# Altium integrated library Infineon_Power_Silicon_Carbide_(SiC).IntLib: 74 symbols (part 1 of 3)
Pins are listed as number, name and electrical type; pins without a type are passive.

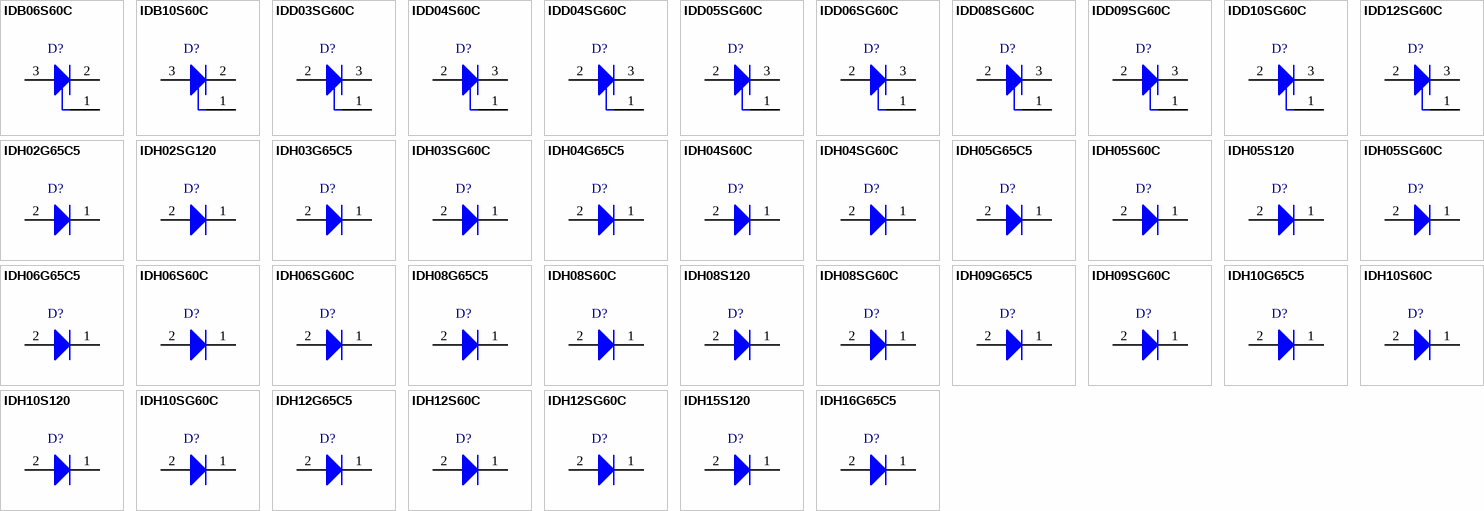
[diagram p0: symbols IDB06S60C to IDH16G65C5]

## IDB06S60C
designator D?
2nd Generation ThinQ SiC Schottky Diode, -55 to 175 degC, PG-TO220-3-45, Reel, Green; Manufacturer: Infineon; PartNumber: IDB06S60C; CT (typ): 280 pF; IF (typ): 6 A; IF,SM (max): 46 A; IR (max): 80 uA; Ptot (max): 52 W; QC (typ): 15 nC; RthJC (max): 2.9 K/W; VDC: 600 V; VF (typ): 1.5 V; DatasheetVersion: Rev. 2.1; PackageVersion: Rev. 03, 02/2010; PackageReference: PG-TO220-3-45; PackageDescription: 3-Pin Plastic (Green) Transistor Single Outline Package, Body 9.2 x 9.9 mm, Pitch 2.54 mm; Supplier 1: Mouser; Supplier Part Number 1: 726-IDB06S60C; Supplier 2: Digi-Key; Supplier Part Number 2: IDB06S60C-ND; Packing: Reel; Technology: thinQ! 2G; Mounting Technology: Surface Mount; ComponentLink1Description: Manufacturer URL; ComponentLink1URL: http://www.infineon.com/; ComponentLink2Description: Datasheet; ComponentLink2URL: http://www.infineon.com/dgdl/IDB06S60C_rev2.1.pdf?folderId=db3a304314dca38901151224afae0c96&fileId=db3a304318a6cd680118a8889fae007a; ComponentLink3Description: Package Specification; ComponentLink3URL: http://www.infineon.com/dgdl/IDB10S60C_rev2.1.pdf?folderId=db3a304314dca38901151224afae0c96&fileId=db3a304318a6cd680118a89c73e5009f
footprint INF-PG-TO220-3-45_N (DPAK, 3-Leads, Body 9.9x9.2mm, Pitch 2.54mm, IPC Medium Density)
footprint INF-PG-TO220-3-45_L (DPAK, 3-Leads, Body 9.9x9.2mm, Pitch 2.54mm, IPC High Density)
footprint INF-PG-TO220-3-45_M (DPAK, 3-Leads, Body 9.9x9.2mm, Pitch 2.54mm, IPC Low Density)
pins: 1 NC, 2 K, 3 A

## IDB10S60C
designator D?
2nd Generation ThinQ SiC Schottky Diode, -55 to 175 degC, PG-TO220-3-45, Reel; Manufacturer: Infineon; PartNumber: IDB10S60C; CT (typ): 480 pF; IF (typ): 10 A; IF,SM (max): 76 A; IR (max): 140 uA; Ptot (max): 83 W; QC (typ): 24 nC; RthJC (max): 1.8 K/W; VDC: 600 V; VF (typ): 1.5 V; DatasheetVersion: Rev. 2.1; PackageVersion: Rev. 03, 02/2010; PackageReference: PG-TO220-3-45; PackageDescription: 3-Pin Plastic (Green) Transistor Single Outline Package, Body 9.2 x 9.9 mm, Pitch 2.54 mm; Supplier 1: Mouser; Supplier Part Number 1: 726-IDB10S60C; Supplier 2: Digi-Key; Supplier Part Number 2: IDB10S60C-ND; Packing: Reel; Technology: thinQ! 2G; Mounting Technology: Surface Mount; ComponentLink1Description: Manufacturer URL; ComponentLink1URL: http://www.infineon.com/; ComponentLink2Description: Datasheet; ComponentLink2URL: http://www.infineon.com/dgdl/IDB10S60C_rev2.1.pdf?folderId=db3a304314dca38901151224afae0c96&fileId=db3a304318a6cd680118a89c73e5009f; ComponentLink3Description: Package Specification; ComponentLink3URL: http://www.infineon.com/dgdl/IDB10S60C_rev2.1.pdf?folderId=db3a304314dca38901151224afae0c96&fileId=db3a304318a6cd680118a89c73e5009f
footprint INF-PG-TO220-3-45_N (DPAK, 3-Leads, Body 9.9x9.2mm, Pitch 2.54mm, IPC Medium Density)
footprint INF-PG-TO220-3-45_L (DPAK, 3-Leads, Body 9.9x9.2mm, Pitch 2.54mm, IPC High Density)
footprint INF-PG-TO220-3-45_M (DPAK, 3-Leads, Body 9.9x9.2mm, Pitch 2.54mm, IPC Low Density)
pins: 1 NC, 2 K, 3 A

## IDD03SG60C
designator D?
3rd Generation thinQ SiC Schottky Diode, -55 to 175 degC, PG-TO252-3-21, Reel, Green; Manufacturer: Infineon; PartNumber: IDD03SG60C; CT (typ): 60 pF; IF (typ): 3 A; IF,SM (max): 11.5 A; IR (max): 15 uA; Ptot (max): 38 W; QC (typ): 3.2 nC; RthJC (max): 3.9 K/W; VDC: 600 V; VF (typ): 2.1 V; DatasheetVersion: Rev. 2.4; PackageVersion: Rev. 03, 10/2007; PackageReference: PG-TO252-3; PackageDescription: 3-Pin Plastic (Green) Transistor Single Outline Package, 6.095 x 6.565 mm Body, 2.29 mm Pitch; Supplier 1: Mouser; Supplier Part Number 1: 726-IDD03SG60C; Supplier 2: Newark; Supplier Part Number 2: 12T7339; Supplier 3: Farnell; Supplier Part Number 3: 1844993; Supplier 4: Digi-Key; Supplier Part Number 4: IDD03SG60CTR-ND; Supplier 5: Digi-Key; Supplier Part Number 5: IDD03SG60CCT-ND; Supplier 6: Digi-Key; Supplier Part Number 6: IDD03SG60CDKR-ND; Packing: Reel; Technology: thinQ! 3G; Mounting Technology: Surface Mount; ComponentLink1Description: Manufacturer URL; ComponentLink1URL: http://www.infineon.com/; ComponentLink2Description: Datasheet; ComponentLink2URL: http://www.infineon.com/dgdl/IDD03SG60C_rev2.4.pdf?folderId=db3a304314dca38901151224afae0c96&fileId=db3a304327b897500127dcb296f11a53; ComponentLink3Description: Package Specification; ComponentLink3URL: http://www.infineon.com/dgdl/IDD03SG60C_rev2.4.pdf?folderId=db3a304314dca38901151224afae0c96&fileId=db3a304327b897500127dcb296f11a53
footprint INF-PG-TO252-3_A_N (DPAK, 3-Leads, Body 6.565x6.095mm, Pitch 2.29mm, IPC Medium Density)
footprint INF-PG-TO252-3_A_L (DPAK, 3-Leads, Body 6.565x6.095mm, Pitch 2.29mm, IPC High Density)
footprint INF-PG-TO252-3_A_M (DPAK, 3-Leads, Body 6.565x6.095mm, Pitch 2.29mm, IPC Low Density)
pins: 1 NC, 2 A, 3 K

## IDD04S60C
designator D?
2nd Generation ThinQ SiC Schottky Diode, -55 to 175 degC, PG-TO252-3-11, Reel; Manufacturer: Infineon; PartNumber: IDD04S60C; CT (typ): 130 pF; IF (typ): 4 A; IF,SM (max): 32 A; IR (max): 50 uA; Ptot (max): 37 W; QC (typ): 8 nC; RthJC (max): 4.1 K/W; VDC: 600 V; VF (typ): 1.7 V; DatasheetVersion: Rev. 2.3; PackageVersion: Rev. 02, 03/2007; PackageReference: PG-TO252-3-11; PackageDescription: 3-Pin Plastic (Green) Transistor Single Outline Package, 6.57 x 6.1 mm Body, 2.29 mm Pitch; Supplier 1: Mouser; Supplier Part Number 1: 726-IDD04S60C; Supplier 2: Digi-Key; Supplier Part Number 2: IDD04S60CTR-ND; Supplier 3: Digi-Key; Supplier Part Number 3: IDD04S60CCT-ND; Supplier 4: Digi-Key; Supplier Part Number 4: IDD04S60CDKR-ND; Packing: Reel; Technology: thinQ! 2G; Mounting Technology: Surface Mount; ComponentLink1Description: Manufacturer URL; ComponentLink1URL: http://www.infineon.com/; ComponentLink2Description: Datasheet; ComponentLink2URL: http://www.infineon.com/dgdl/IDD04S60C_2.3.pdf?folderId=db3a304412b407950112b408e8c90004&fileId=db3a304412b407950112b439f8d36f1a; ComponentLink3Description: Package Specification; ComponentLink3URL: http://www.infineon.com/dgdl/IPD160N04L_rev1.0.pdf?folderId=db3a3043163797a6011643468e7505a4&fileId=db3a3043163797a60116436401cf05cf
footprint INF-PG-TO252-3-11_A_N (DPAK, 3-Leads, Body 6.57x6.1mm, Pitch 2.29mm, IPC Medium Density)
footprint INF-PG-TO252-3-11_A_L (DPAK, 3-Leads, Body 6.57x6.1mm, Pitch 2.29mm, IPC High Density)
footprint INF-PG-TO252-3-11_A_M (DPAK, 3-Leads, Body 6.57x6.1mm, Pitch 2.29mm, IPC Low Density)
pins: 1 NC, 2 A, 3 K

## IDD04SG60C
designator D?
3rd Generation ThinQ SiC Schottky Diode, -55 to 175 degC, PG-TO252-3-313, Reel, Green; Manufacturer: Infineon; PartNumber: IDD04SG60C; CT (typ): 80 pF; IF (typ): 4 A; IF,SM (max): 18 A; IR (max): 25 uA; Ptot (max): 43 W; QC (typ): 4.5 nC; RthJC (max): 3.5 K/W; VDC: 600 V; VF (typ): 2.1 V; DatasheetVersion: Rev. 2.4; PackageVersion: Oct-10; PackageReference: PG-TO252-3-313; PackageDescription: 3-Pin Plastic (Green) Transistor Single Outline Package, 6.5 x 6.12 mm Body, 2.28 mm Pitch; Supplier 1: Mouser; Supplier Part Number 1: 726-IDD04SG60C; Supplier 2: Newark; Supplier Part Number 2: 12T7340; Supplier 3: Farnell; Supplier Part Number 3: 1844995; Supplier 4: Digi-Key; Supplier Part Number 4: IDD04SG60C-ND; Packing: Reel; Technology: thinQ! 3G; Mounting Technology: Surface Mount; ComponentLink1Description: Manufacturer URL; ComponentLink1URL: http://www.infineon.com/; ComponentLink2Description: Datasheet; ComponentLink2URL: http://www.infineon.com/dgdl/IDD04SG60C_rev2.4.pdf?folderId=db3a304314dca38901151224afae0c96&fileId=db3a304327b897500127dcc02a0f1a63; ComponentLink3Description: Package Specification; ComponentLink3URL: http://www.infineon.com/dgdl/PG-TO252-3-313-Package_Overview.pdf?folderId=db3a30432b57a660012b81890ade72d2&fileId=db3a30432b57a660012b8193af2872eb
footprint INF-PG-TO252-3-313_N (DPAK, 3-Leads, Body 6.5x6.12mm, Pitch 2.28mm, IPC Medium Density)
footprint INF-PG-TO252-3-313_L (DPAK, 3-Leads, Body 6.5x6.12mm, Pitch 2.28mm, IPC High Density)
footprint INF-PG-TO252-3-313_M (DPAK, 3-Leads, Body 6.5x6.12mm, Pitch 2.28mm, IPC Low Density)
pins: 1 NC, 2 A, 3 K

## IDD05SG60C
designator D?
3rd Generation ThinQ SiC Schottky Diode, -55 to 175 degC, PG-TO252-3-313, Reel, Green; Manufacturer: Infineon; PartNumber: IDD05SG60C; CT (typ): 110 pF; IF (typ): 5 A; IF,SM (max): 26 A; IR (max): 30 uA; Ptot (max): 56 W; QC (typ): 6 nC; RthJC (max): 2.7 K/W; VDC: 600 V; VF (typ): 2.1 V; DatasheetVersion: Rev. 2.4; PackageVersion: Oct-10; PackageReference: PG-TO252-3-313; PackageDescription: 3-Pin Plastic (Green) Transistor Single Outline Package, 6.5 x 6.12 mm Body, 2.28 mm Pitch; Supplier 1: Mouser; Supplier Part Number 1: 726-IDD05SG60C; Supplier 2: Newark; Supplier Part Number 2: 12T7341; Supplier 3: Farnell; Supplier Part Number 3: 1844996; Supplier 4: Digi-Key; Supplier Part Number 4: IDD05SG60C-ND; Packing: Reel; Technology: thinQ! 3G; Mounting Technology: Surface Mount; ComponentLink1Description: Manufacturer URL; ComponentLink1URL: http://www.infineon.com/; ComponentLink2Description: Datasheet; ComponentLink2URL: http://www.infineon.com/dgdl/IDD05SG60C_rev2.4.pdf?folderId=db3a304314dca38901151224afae0c96&fileId=db3a304327b897500127dd2fc4391a74; ComponentLink3Description: Package Specification; ComponentLink3URL: http://www.infineon.com/dgdl/PG-TO252-3-313-Package_Overview.pdf?folderId=db3a30432b57a660012b81890ade72d2&fileId=db3a30432b57a660012b8193af2872eb
footprint INF-PG-TO252-3-313_N (DPAK, 3-Leads, Body 6.5x6.12mm, Pitch 2.28mm, IPC Medium Density)
footprint INF-PG-TO252-3-313_L (DPAK, 3-Leads, Body 6.5x6.12mm, Pitch 2.28mm, IPC High Density)
footprint INF-PG-TO252-3-313_M (DPAK, 3-Leads, Body 6.5x6.12mm, Pitch 2.28mm, IPC Low Density)
pins: 1 NC, 2 A, 3 K

## IDD06SG60C
designator D?
3rd Generation ThinQ SiC Schottky Diode, -55 to 175 degC, PG-TO252-3-313, Reel, Green; Manufacturer: Infineon; PartNumber: IDD06SG60C; CT (typ): 130 pF; IF (typ): 6 A; IF,SM (max): 32 A; IR (max): 50 uA; Ptot (max): 65 W; QC (typ): 8 nC; RthJC (max): 2.3 K/W; VDC: 600 V; VF (typ): 2.1 V; DatasheetVersion: Rev. 2.4; PackageVersion: Oct-10; PackageReference: PG-TO252-3-313; PackageDescription: 3-Pin Plastic (Green) Transistor Single Outline Package, 6.5 x 6.12 mm Body, 2.28 mm Pitch; Supplier 1: Mouser; Supplier Part Number 1: 726-IDD06SG60C; Supplier 2: Newark; Supplier Part Number 2: 12T7342; Supplier 3: Farnell; Supplier Part Number 3: 1844997; Supplier 4: Digi-Key; Supplier Part Number 4: IDD06SG60C-ND; Packing: Reel; Technology: thinQ! 3G; Mounting Technology: Surface Mount; ComponentLink1Description: Manufacturer URL; ComponentLink1URL: http://www.infineon.com/; ComponentLink2Description: Datasheet; ComponentLink2URL: http://www.infineon.com/dgdl/IDD06SG60C_rev2.4.pdf?folderId=db3a304314dca38901151224afae0c96&fileId=db3a304327b897500127dd36c4741a85; ComponentLink3Description: Package Specification; ComponentLink3URL: http://www.infineon.com/dgdl/PG-TO252-3-313-Package_Overview.pdf?folderId=db3a30432b57a660012b81890ade72d2&fileId=db3a30432b57a660012b8193af2872eb
footprint INF-PG-TO252-3-313_N (DPAK, 3-Leads, Body 6.5x6.12mm, Pitch 2.28mm, IPC Medium Density)
footprint INF-PG-TO252-3-313_L (DPAK, 3-Leads, Body 6.5x6.12mm, Pitch 2.28mm, IPC High Density)
footprint INF-PG-TO252-3-313_M (DPAK, 3-Leads, Body 6.5x6.12mm, Pitch 2.28mm, IPC Low Density)
pins: 1 NC, 2 A, 3 K

## IDD08SG60C
designator D?
3rd Generation ThinQ SiC Schottky Diode, -55 to 175 degC, PG-TO252-3-313, Reel, Green; Manufacturer: Infineon; PartNumber: IDD08SG60C; CT (typ): 240 pF; IF (typ): 8 A; IF,SM (max): 42 A; IR (max): 70 uA; Ptot (max): 100 W; QC (typ): 12 nC; RthJC (max): 1.5 K/W; VDC: 600 V; VF (typ): 1.8 V; DatasheetVersion: Rev. 2.4; PackageVersion: Oct-10; PackageReference: PG-TO252-3-313; PackageDescription: 3-Pin Plastic (Green) Transistor Single Outline Package, 6.5 x 6.12 mm Body, 2.28 mm Pitch; Supplier 1: Mouser; Supplier Part Number 1: 726-IDD08SG60C; Supplier 2: Newark; Supplier Part Number 2: 12T7343; Supplier 3: Farnell; Supplier Part Number 3: 1844998; Supplier 4: Digi-Key; Supplier Part Number 4: IDD08SG60C-ND; Packing: Reel; Technology: thinQ! 3G; Mounting Technology: Surface Mount; ComponentLink1Description: Manufacturer URL; ComponentLink1URL: http://www.infineon.com/; ComponentLink2Description: Datasheet; ComponentLink2URL: http://www.infineon.com/dgdl/IDD08SG60C_rev2.4.pdf?folderId=db3a304314dca38901151224afae0c96&fileId=db3a304327b897500127dd414af01a96; ComponentLink3Description: Package Specification; ComponentLink3URL: http://www.infineon.com/dgdl/PG-TO252-3-313-Package_Overview.pdf?folderId=db3a30432b57a660012b81890ade72d2&fileId=db3a30432b57a660012b8193af2872eb
footprint INF-PG-TO252-3-313_N (DPAK, 3-Leads, Body 6.5x6.12mm, Pitch 2.28mm, IPC Medium Density)
footprint INF-PG-TO252-3-313_L (DPAK, 3-Leads, Body 6.5x6.12mm, Pitch 2.28mm, IPC High Density)
footprint INF-PG-TO252-3-313_M (DPAK, 3-Leads, Body 6.5x6.12mm, Pitch 2.28mm, IPC Low Density)
pins: 1 NC, 2 A, 3 K

## IDD09SG60C
designator D?
3rd Generation ThinQ SiC Schottky Diode, -55 to 175 degC, PG-TO252-3-313, Reel, Green; Manufacturer: Infineon; PartNumber: IDD09SG60C; CT (typ): 280 pF; IF (typ): 9 A; IF,SM (max): 49 A; IR (max): 80 uA; Ptot (max): 115 mW; QC (typ): 15 nC; RthJC (max): 1.3 K/W; VDC: 600 V; VF (typ): 1.8 V; DatasheetVersion: Rev. 2.4; PackageVersion: Oct-10; PackageReference: PG-TO252-3-313; PackageDescription: 3-Pin Plastic (Green) Transistor Single Outline Package, 6.5 x 6.12 mm Body, 2.28 mm Pitch; Supplier 1: Mouser; Supplier Part Number 1: 726-IDD09SG60C; Supplier 2: Newark; Supplier Part Number 2: 12T7344; Supplier 3: Farnell; Supplier Part Number 3: 1844999; Supplier 4: Digi-Key; Supplier Part Number 4: IDD09SG60C-ND; Packing: Reel; Technology: thinQ! 3G; Mounting Technology: Surface Mount; ComponentLink1Description: Manufacturer URL; ComponentLink1URL: http://www.infineon.com/; ComponentLink2Description: Datasheet; ComponentLink2URL: http://www.infineon.com/dgdl/IDD09SG60C_rev2.4.pdf?folderId=db3a304314dca38901151224afae0c96&fileId=db3a304327b897500127dd6a2f7d1aab; ComponentLink3Description: Package Specification; ComponentLink3URL: http://www.infineon.com/dgdl/PG-TO252-3-313-Package_Overview.pdf?folderId=db3a30432b57a660012b81890ade72d2&fileId=db3a30432b57a660012b8193af2872eb
footprint INF-PG-TO252-3-313_N (DPAK, 3-Leads, Body 6.5x6.12mm, Pitch 2.28mm, IPC Medium Density)
footprint INF-PG-TO252-3-313_L (DPAK, 3-Leads, Body 6.5x6.12mm, Pitch 2.28mm, IPC High Density)
footprint INF-PG-TO252-3-313_M (DPAK, 3-Leads, Body 6.5x6.12mm, Pitch 2.28mm, IPC Low Density)
pins: 1 NC, 2 A, 3 K

## IDD10SG60C
designator D?
3rd Generation ThinQ SiC Schottky Diode, -55 to 175 degC, PG-TO252-3-313, Reel; Manufacturer: Infineon; PartNumber: IDD10SG60C; CT (typ): 290 pF; IF (typ): 10 A; IF,SM (max): 51 A; IR (max): 90 uA; Ptot (max): 120 W; QC (typ): 16 nC; RthJC (max): 1.25 K/W; VDC: 600 V; VF (typ): 1.8 V; DatasheetVersion: Rev. 2.4; PackageVersion: Oct-10; PackageReference: PG-TO252-3-313; PackageDescription: 3-Pin Plastic (Green) Transistor Single Outline Package, 6.5 x 6.12 mm Body, 2.28 mm Pitch; Supplier 1: Mouser; Supplier Part Number 1: 726-IDD10SG60C; Supplier 2: Newark; Supplier Part Number 2: 12T7345; Supplier 3: Farnell; Supplier Part Number 3: 1845000; Supplier 4: Digi-Key; Supplier Part Number 4: IDD10SG60C-ND; Packing: Reel; Technology: thinQ! 3G; Mounting Technology: Surface Mount; ComponentLink1Description: Manufacturer URL; ComponentLink1URL: http://www.infineon.com/; ComponentLink2Description: Datasheet; ComponentLink2URL: http://www.infineon.com/dgdl/IDD10SG60C_rev2.4.pdf?folderId=db3a304314dca38901151224afae0c96&fileId=db3a304327b897500127dd77c6a21abe; ComponentLink3Description: Package Specification; ComponentLink3URL: http://www.infineon.com/dgdl/PG-TO252-3-313-Package_Overview.pdf?folderId=db3a30432b57a660012b81890ade72d2&fileId=db3a30432b57a660012b8193af2872eb
footprint INF-PG-TO252-3-313_N (DPAK, 3-Leads, Body 6.5x6.12mm, Pitch 2.28mm, IPC Medium Density)
footprint INF-PG-TO252-3-313_L (DPAK, 3-Leads, Body 6.5x6.12mm, Pitch 2.28mm, IPC High Density)
footprint INF-PG-TO252-3-313_M (DPAK, 3-Leads, Body 6.5x6.12mm, Pitch 2.28mm, IPC Low Density)
pins: 1 NC, 2 A, 3 K

## IDD12SG60C
designator D?
3rd Generation ThinQ SiC Schottky Diode, -55 to 175 degC, PG-TO252-3-313, Reel, Green; Manufacturer: Infineon; PartNumber: IDD12SG60C; CT (typ): 310 pF; IF (typ): 12 A; IF,SM (max): 59 A; IR (max): 100 uA; Ptot (max): 125 W; QC (typ): 19 nC; RthJC (max): 1.2 K/W; VDC: 600 V; VF (typ): 1.8 V; DatasheetVersion: Rev. 2.4; PackageVersion: Oct-10; PackageReference: PG-TO252-3-313; PackageDescription: 3-Pin Plastic (Green) Transistor Single Outline Package, 6.5 x 6.12 mm Body, 2.28 mm Pitch; Supplier 1: Mouser; Supplier Part Number 1: 726-IDD12SG60C; Supplier 2: Digi-Key; Supplier Part Number 2: IDD12SG60C-ND; Packing: Reel; Technology: thinQ! 3G; Mounting Technology: Surface Mount; ComponentLink1Description: Manufacturer URL; ComponentLink1URL: http://www.infineon.com/; ComponentLink2Description: Datasheet; ComponentLink2URL: http://www.infineon.com/dgdl/IDD12SG60C_rev2.4.pdf?folderId=db3a304314dca38901151224afae0c96&fileId=db3a304327b897500127dd815a071acf; ComponentLink3Description: Package Specification; ComponentLink3URL: http://www.infineon.com/dgdl/PG-TO252-3-313-Package_Overview.pdf?folderId=db3a30432b57a660012b81890ade72d2&fileId=db3a30432b57a660012b8193af2872eb
footprint INF-PG-TO252-3-313_N (DPAK, 3-Leads, Body 6.5x6.12mm, Pitch 2.28mm, IPC Medium Density)
footprint INF-PG-TO252-3-313_L (DPAK, 3-Leads, Body 6.5x6.12mm, Pitch 2.28mm, IPC High Density)
footprint INF-PG-TO252-3-313_M (DPAK, 3-Leads, Body 6.5x6.12mm, Pitch 2.28mm, IPC Low Density)
pins: 1 NC, 2 A, 3 K

## IDH02G65C5
designator D?
5th Generation ThinQ SiC Schottky Diode, -55 to 175 degC, PG-TO220-2-1, Tube; Manufacturer: Infineon; PartNumber: IDH02G65C5; CT (typ): 70 pF; IF (typ): 2 A; IF,SM (max): 31 A; IR (max): 4 uA; Ptot (max): 36 W; QC (typ): 5 nC; RthJC (max): 4.2 K/W; VDC: 650 V; VF (typ): 1.5 V; DatasheetVersion: Rev. 2.2; PackageVersion: Rev. 01, 10/2008; PackageReference: PG-TO220-2-1; PackageDescription: 2-Pin Plastic (Green) Transistor Single Outline Package, Body 9.25 x 10 mm, Pitch 5.08 mm; Packing: Tube; Technology: thinQ! 5G; Mounting Technology: Through Hole; ComponentLink1Description: Manufacturer URL; ComponentLink1URL: http://www.infineon.com/; ComponentLink2Description: Datasheet; ComponentLink2URL: http://www.infineon.com/dgdl/IDH02G65C5_Final_Datasheet_v2_2.pdf?folderId=db3a304314dca38901151224afae0c96&fileId=db3a304339dcf4b1013a030ab96758eb; ComponentLink3Description: Package Specification; ComponentLink3URL: http://www.infineon.com/dgdl/IDP09E120_v2_3G%5B1%5D.pdf?folderId=db3a304314dca38901151224afae0c96&fileId=db3a30432313ff5e01237a7d849d7c11
footprint INF-PG-TO220-2-1 (FM, 2-Leads, Body 10x4.4mm, Pitch 5.08mm)
pins: 1 K, 2 A

## IDH02SG120
designator D?
3rd Generation ThinQ SiC Schottky Diode, -55 to 175 degC, PG-TO220-2-1, Tube, Green; Manufacturer: Infineon; PartNumber: IDH02SG120; CT (typ): 100 pF; IF (typ): 2 A; IF,SM (max): 12 A; IR (max): 48 uA; Ptot (max): 75 W; QC (typ): 7.2 nC; RthJC (max): 2 K/W; VDC: 1,200 V; VF (typ): 1.65 V; DatasheetVersion: Rev. 2.0; PackageVersion: Rev. 01, 10/2008; PackageReference: PG-TO220-2-1; PackageDescription: 2-Pin Plastic (Green) Transistor Single Outline Package, Body 9.25 x 10 mm, Pitch 5.08 mm; Supplier 1: Mouser; Supplier Part Number 1: 726-IDH02SG120; Supplier 2: Newark; Supplier Part Number 2: 12T7347; Supplier 3: Farnell; Supplier Part Number 3: 1844984; Supplier 4: Digi-Key; Supplier Part Number 4: IDH02SG120-ND; Packing: Tube; Technology: thinQ! 2G; Mounting Technology: Through Hole; ComponentLink1Description: Manufacturer URL; ComponentLink1URL: http://www.infineon.com/; ComponentLink2Description: Datasheet; ComponentLink2URL: http://www.infineon.com/dgdl/IDH02SG120_rev+2.pdf?folderId=db3a304314dca38901151224afae0c96&fileId=db3a304320896aa20120b353d54376e4; ComponentLink3Description: Package Specification; ComponentLink3URL: http://www.infineon.com/dgdl/IDP09E120_v2_3G%5B1%5D.pdf?folderId=db3a304314dca38901151224afae0c96&fileId=db3a30432313ff5e01237a7d849d7c11
footprint INF-PG-TO220-2-1 (FM, 2-Leads, Body 10x4.4mm, Pitch 5.08mm)
pins: 1 K, 2 A

## IDH03G65C5
designator D?
5th Generation ThinQ SiC Schottky Diode, -55 to 175 degC, PG-TO220-2-1, Tube, Green; Manufacturer: Infineon; PartNumber: IDH03G65C5; CT (typ): 100 pF; IF (typ): 3 A; IF,SM (max): 31 A; IR (max): 30 uA; Ptot (max): 42 W; QC (typ): 5 nC; RthJC (max): 3.6 K/W; VDC: 650 V; VF (typ): 1.5 V; DatasheetVersion: Rev. 2.2; PackageVersion: Rev. 01, 10/2008; PackageReference: PG-TO220-2-1; PackageDescription: 2-Pin Plastic (Green) Transistor Single Outline Package, Body 9.25 x 10 mm, Pitch 5.08 mm; Supplier 1: Digi-Key; Supplier Part Number 1: IDH03G65C5-ND; Packing: Tube; Technology: thinQ! 5G; Mounting Technology: Through Hole; ComponentLink1Description: Manufacturer URL; ComponentLink1URL: http://www.infineon.com/; ComponentLink2Description: Datasheet; ComponentLink2URL: http://www.infineon.com/dgdl/IDH03G65C5_Final_Datasheet_v2_2.pdf?folderId=db3a304314dca38901151224afae0c96&fileId=db3a304339dcf4b1013a0316abfd58ff; ComponentLink3Description: Package Specification; ComponentLink3URL: http://www.infineon.com/dgdl/IDP09E120_v2_3G%5B1%5D.pdf?folderId=db3a304314dca38901151224afae0c96&fileId=db3a30432313ff5e01237a7d849d7c11
footprint INF-PG-TO220-2-1 (FM, 2-Leads, Body 10x4.4mm, Pitch 5.08mm)
pins: 1 K, 2 A

## IDH03SG60C
designator D?
3rd Generation ThinQ SiC Schottky Diode, -55 to 175 degC, PG-TO220-2-1, Tube, Green; Manufacturer: Infineon; PartNumber: IDH03SG60C; CT (typ): 60 pF; IF (typ): 3 A; IF,SM (max): 11.5 A; IR (max): 15 uA; Ptot (max): 38 W; QC (typ): 3.2 nC; RthJC (max): 3.9 K/W; VDC: 600 V; VF (typ): 2.1 V; DatasheetVersion: Rev. 2.3; PackageVersion: Rev. 01, 10/2008; PackageReference: PG-TO220-2-1; PackageDescription: 2-Pin Plastic (Green) Transistor Single Outline Package, Body 9.25 x 10 mm, Pitch 5.08 mm; Supplier 1: Mouser; Supplier Part Number 1: 726-IDH03SG60C; Supplier 2: Newark; Supplier Part Number 2: 12T7348; Supplier 3: Farnell; Supplier Part Number 3: 1845002; Supplier 4: Digi-Key; Supplier Part Number 4: IDH03SG60C-ND; Packing: Tube; Technology: thinQ! 3G; Mounting Technology: Through Hole; ComponentLink1Description: Manufacturer URL; ComponentLink1URL: http://www.infineon.com/; ComponentLink2Description: Datasheet; ComponentLink2URL: http://www.infineon.com/dgdl/IDH03SG60C_rev2.3.pdf?folderId=db3a30431ddc9372011ed0010fda1bd3&fileId=db3a30431ff98815012019e44a933f33; ComponentLink3Description: Package Specification; ComponentLink3URL: http://www.infineon.com/dgdl/IDP09E120_v2_3G%5B1%5D.pdf?folderId=db3a304314dca38901151224afae0c96&fileId=db3a30432313ff5e01237a7d849d7c11
footprint INF-PG-TO220-2-1 (FM, 2-Leads, Body 10x4.4mm, Pitch 5.08mm)
pins: 1 K, 2 A

## IDH04G65C5
designator D?
5th Generation ThinQ SiC Schottky Diode, -55 to 175 degC, PG-TO220-2-1, Tube, Green; Manufacturer: Infineon; PartNumber: IDH04G65C5; CT (typ): 130 pF; IF (typ): 4 A; IF,SM (max): 38 A; IR (max): 40 uA; Ptot (max): 48 W; QC (typ): 7 nC; RthJC (max): 3.1 K/W; VDC: 650 V; VF (typ): 1.5 V; DatasheetVersion: Rev. 2.2; PackageVersion: Rev. 01, 10/2008; PackageReference: PG-TO220-2-1; PackageDescription: 2-Pin Plastic (Green) Transistor Single Outline Package, Body 9.25 x 10 mm, Pitch 5.08 mm; Supplier 1: Digi-Key; Supplier Part Number 1: IDH04G65C5-ND; Packing: Tube; Technology: thinQ! 5G; Mounting Technology: Through Hole; ComponentLink1Description: Manufacturer URL; ComponentLink1URL: http://www.infineon.com/; ComponentLink2Description: Datasheet; ComponentLink2URL: http://www.infineon.com/dgdl/IDH04G65C5_Final_Datasheet_v2_2.pdf?folderId=db3a30431ddc9372011ed0010fda1bd3&fileId=db3a304339dcf4b1013a033ff5d95947; ComponentLink3Description: Package Specification; ComponentLink3URL: http://www.infineon.com/dgdl/IDP09E120_v2_3G%5B1%5D.pdf?folderId=db3a304314dca38901151224afae0c96&fileId=db3a30432313ff5e01237a7d849d7c11
footprint INF-PG-TO220-2-1 (FM, 2-Leads, Body 10x4.4mm, Pitch 5.08mm)
pins: 1 K, 2 A

## IDH04S60C
designator D?
2nd Generation ThinQ SiC Schottky Diode, -55 to 175 degC, PG-TO220-2-1, Tube, Green; Manufacturer: Infineon; PartNumber: IDH04S60C; CT (typ): 130 pF; IF (typ): 4 A; IF,SM (max): 32 A; IR (max): 50 uA; Ptot (max): 42 W; QC (typ): 8 nC; RthJC (max): 3.6 K/W; VDC: 600 V; VF (typ): 1.7 V; DatasheetVersion: Rev. 2.1; PackageVersion: Rev. 01, 10/2008; PackageReference: PG-TO220-2-1; PackageDescription: 2-Pin Plastic (Green) Transistor Single Outline Package, Body 9.25 x 10 mm, Pitch 5.08 mm; Supplier 1: Mouser; Supplier Part Number 1: 726-IDH04S60C; Supplier 2: Digi-Key; Supplier Part Number 2: IDH04S60C-ND; Packing: Tube; Technology: thinQ! 2G; Mounting Technology: Through Hole; ComponentLink1Description: Manufacturer URL; ComponentLink1URL: http://www.infineon.com/; ComponentLink2Description: Datasheet; ComponentLink2URL: http://www.infineon.com/dgdl/IDH04S60C+rev.2.1.pdf?folderId=db3a304314dca38901151224afae0c96&fileId=db3a30432239cccd01225ed2716f7e3f; ComponentLink3Description: Package Specification; ComponentLink3URL: http://www.infineon.com/dgdl/IDP09E120_v2_3G%5B1%5D.pdf?folderId=db3a304314dca38901151224afae0c96&fileId=db3a30432313ff5e01237a7d849d7c11
footprint INF-PG-TO220-2-1 (FM, 2-Leads, Body 10x4.4mm, Pitch 5.08mm)
pins: 1 K, 2 A

## IDH04SG60C
designator D?
3rd Generation ThinQ SiC Schottky Diode, -55 to 175 degC, PG-TO220-2-1, Tube; Manufacturer: Infineon; PartNumber: IDH04SG60C; CT (typ): 80 pF; IF (typ): 4 A; IF,SM (max): 18 A; IR (max): 25 uA; Ptot (max): 43 W; QC (typ): 4.5 nC; RthJC (max): 3.5 K/W; VDC: 600 V; VF (typ): 2.1 V; DatasheetVersion: Rev. 2.4; PackageVersion: Rev. 01, 10/2008; PackageReference: PG-TO220-2-1; PackageDescription: 2-Pin Plastic (Green) Transistor Single Outline Package, Body 9.25 x 10 mm, Pitch 5.08 mm; Supplier 1: Mouser; Supplier Part Number 1: 726-IDH04SG60C; Supplier 2: Digi-Key; Supplier Part Number 2: IDH04SG60C-ND; Packing: Tube; Technology: thinQ! 3G; Mounting Technology: Through Hole; ComponentLink1Description: Manufacturer URL; ComponentLink1URL: http://www.infineon.com/; ComponentLink2Description: Datasheet; ComponentLink2URL: http://www.infineon.com/dgdl/IDH04SG60C_rev2.4+.pdf?folderId=db3a30431d8a6b3c011dbeca72db281a&fileId=db3a30431f848401011ff4cbbf635316; ComponentLink3Description: Package Specification; ComponentLink3URL: http://www.infineon.com/dgdl/IDP09E120_v2_3G%5B1%5D.pdf?folderId=db3a304314dca38901151224afae0c96&fileId=db3a30432313ff5e01237a7d849d7c11
footprint INF-PG-TO220-2-1 (FM, 2-Leads, Body 10x4.4mm, Pitch 5.08mm)
pins: 1 K, 2 A

## IDH05G65C5
designator D?
5th Generation ThinQ SiC Schottky Diode, -55 to 175 degC, PG-TO220-2-1, Tube; Manufacturer: Infineon; PartNumber: IDH05G65C5; CT (typ): 160 pF; IF (typ): 5 A; IF,SM (max): 46 A; IR (max): 50 uA; Ptot (max): 55 W; QC (typ): 8 nC; RthJC (max): 2.7 K/W; VDC: 650 V; VF (typ): 1.5 V; DatasheetVersion: Rev. 2.2; PackageVersion: Rev. 01, 10/2008; PackageReference: PG-TO220-2-1; PackageDescription: 2-Pin Plastic (Green) Transistor Single Outline Package, Body 9.25 x 10 mm, Pitch 5.08 mm; Supplier 1: Digi-Key; Supplier Part Number 1: IDH05G65C5-ND; Packing: Tube; Technology: thinQ! 5G; Mounting Technology: Through Hole; ComponentLink1Description: Manufacturer URL; ComponentLink1URL: http://www.infineon.com/; ComponentLink2Description: Datasheet; ComponentLink2URL: http://www.infineon.com/dgdl/IDH05G65C5_Final_Datasheet_v2_2.pdf?folderId=db3a30431ddc9372011ed0010fda1bd3&fileId=db3a304339dcf4b1013a034bd32d595e; ComponentLink3Description: Package Specification; ComponentLink3URL: http://www.infineon.com/dgdl/IDP09E120_v2_3G%5B1%5D.pdf?folderId=db3a304314dca38901151224afae0c96&fileId=db3a30432313ff5e01237a7d849d7c11
footprint INF-PG-TO220-2-1 (FM, 2-Leads, Body 10x4.4mm, Pitch 5.08mm)
pins: 1 K, 2 A

## IDH05S60C
designator D?
2nd Generation ThinQ SiC Schottky Diode, -55 to 175 degC, PG-TO220-2-1, Tube, Green; Manufacturer: Infineon; PartNumber: IDH05S60C; CT (typ): 240 pF; IF (typ): 5 A; IF,SM (max): 42 A; IR (max): 70 uA; Ptot (max): 55 W; QC (typ): 12 nC; RthJC (max): 2.7 K/W; VDC: 600 V; VF (typ): 1.5 V; DatasheetVersion: Rev. 2.1; PackageVersion: Rev. 01, 10/2008; PackageReference: PG-TO220-2-1; PackageDescription: 2-Pin Plastic (Green) Transistor Single Outline Package, Body 9.25 x 10 mm, Pitch 5.08 mm; Supplier 1: Mouser; Supplier Part Number 1: 726-IDH05S60C; Supplier 2: Farnell; Supplier Part Number 2: 1844990; Supplier 3: Digi-Key; Supplier Part Number 3: IDH05S60C-ND; Packing: Tube; Technology: thinQ! 2G; Mounting Technology: Through Hole; ComponentLink1Description: Manufacturer URL; ComponentLink1URL: http://www.infineon.com/; ComponentLink2Description: Datasheet; ComponentLink2URL: http://www.infineon.com/dgdl/IDH05S60C+rev.2.1.pdf?folderId=db3a30431d8a6b3c011dbeca72db281a&fileId=db3a3043284aacd80128b04ff3e05608; ComponentLink3Description: Package Specification; ComponentLink3URL: http://www.infineon.com/dgdl/IDP09E120_v2_3G%5B1%5D.pdf?folderId=db3a304314dca38901151224afae0c96&fileId=db3a30432313ff5e01237a7d849d7c11
footprint INF-PG-TO220-2-1 (FM, 2-Leads, Body 10x4.4mm, Pitch 5.08mm)
pins: 1 K, 2 A

## IDH05S120
designator D?
ThinQ SiC Schottky Diode, -55 to 175 degC, PG-TO220-2-1, Tube; Manufacturer: Infineon; PartNumber: IDH05S120; CT (typ): 250 pF; IF (typ): 5 A; IF,SM (max): 29 A; IR (max): 120 uA; Ptot (max): 75 W; QC (typ): 18 nC; RthJC (max): 2 K/W; VDC: 1,200 V; VF (typ): 1.65 V; DatasheetVersion: Rev. 2.0; PackageVersion: Rev. 01, 10/2008; PackageReference: PG-TO220-2-1; PackageDescription: 2-Pin Plastic (Green) Transistor Single Outline Package, Body 9.25 x 10 mm, Pitch 5.08 mm; Supplier 1: Mouser; Supplier Part Number 1: 726-IDH05S120; Supplier 2: Newark; Supplier Part Number 2: 22T5135; Supplier 3: Farnell; Supplier Part Number 3: 1854556; Supplier 4: Digi-Key; Supplier Part Number 4: IDH05S120-ND; Packing: Tube; Technology: thinQ! 2G; Mounting Technology: Through Hole; ComponentLink1Description: Manufacturer URL; ComponentLink1URL: http://www.infineon.com/; ComponentLink2Description: Datasheet; ComponentLink2URL: http://www.infineon.com/dgdl/IDH05S120_Rev2.pdf?folderId=db3a30431d8a6b3c011dbeca72db281a&fileId=db3a30431f848401011ff4b5a32352f1; ComponentLink3Description: Package Specification; ComponentLink3URL: http://www.infineon.com/dgdl/IDP09E120_v2_3G%5B1%5D.pdf?folderId=db3a304314dca38901151224afae0c96&fileId=db3a30432313ff5e01237a7d849d7c11
footprint INF-PG-TO220-2-1 (FM, 2-Leads, Body 10x4.4mm, Pitch 5.08mm)
pins: 1 K, 2 A

## IDH05SG60C
designator D?
3rd Generation ThinQ SiC Schottky Diode, -55 to 175 degC, PG-TO220-2-1, Tube; Manufacturer: Infineon; PartNumber: IDH05SG60C; CT (typ): 110 pF; IF (typ): 5 A; IF,SM (max): 26 A; IR (max): 30 uA; Ptot (max): 56 W; QC (typ): 6 nC; RthJC (max): 2.7 K/W; VDC: 600 V; VF (typ): 2.1 V; DatasheetVersion: Rev. 2.4; PackageVersion: Rev. 01, 10/2008; PackageReference: PG-TO220-2-1; PackageDescription: 2-Pin Plastic (Green) Transistor Single Outline Package, Body 9.25 x 10 mm, Pitch 5.08 mm; Supplier 1: Mouser; Supplier Part Number 1: 726-IDH05SG60C; Supplier 2: Digi-Key; Supplier Part Number 2: IDH05SG60C-ND; Packing: Tube; Technology: thinQ! 3G; Mounting Technology: Through Hole; ComponentLink1Description: Manufacturer URL; ComponentLink1URL: http://www.infineon.com/; ComponentLink2Description: Datasheet; ComponentLink2URL: http://www.infineon.com/dgdl/IDH05SG60C_rev2.4.pdf?folderId=db3a30431d8a6b3c011dbeca72db281a&fileId=db3a30431f848401011ff4cebd9a531b; ComponentLink3Description: Package Specification; ComponentLink3URL: http://www.infineon.com/dgdl/IDP09E120_v2_3G%5B1%5D.pdf?folderId=db3a304314dca38901151224afae0c96&fileId=db3a30432313ff5e01237a7d849d7c11
footprint INF-PG-TO220-2-1 (FM, 2-Leads, Body 10x4.4mm, Pitch 5.08mm)
pins: 1 K, 2 A

## IDH06G65C5
designator D?
5th Generation ThinQ SiC Schottky Diode, -55 to 175 degC, PG-TO220-2-1, Tube; Manufacturer: Infineon; PartNumber: IDH06G65C5; CT (typ): 190 pF; IF (typ): 6 A; IF,SM (max): 54 A; IR (max): 60 uA; Ptot (max): 62 W; QC (typ): 10 nC; RthJC (max): 2.4 K/W; VDC: 650 V; VF (typ): 1.5 V; DatasheetVersion: Rev. 2.2; PackageVersion: Rev. 01, 10/2008; PackageReference: PG-TO220-2-1; PackageDescription: 2-Pin Plastic (Green) Transistor Single Outline Package, Body 9.25 x 10 mm, Pitch 5.08 mm; Supplier 1: Digi-Key; Supplier Part Number 1: IDH06G65C5-ND; Packing: Tube; Technology: thinQ! 5G; Mounting Technology: Through Hole; ComponentLink1Description: Manufacturer URL; ComponentLink1URL: http://www.infineon.com/; ComponentLink2Description: Datasheet; ComponentLink2URL: http://www.infineon.com/dgdl/IDH06G65C5_Final_Datasheet_v2_2.pdf?folderId=db3a30431ddc9372011ed0010fda1bd3&fileId=db3a304339dcf4b1013a0353dadb5970; ComponentLink3Description: Package Specification; ComponentLink3URL: http://www.infineon.com/dgdl/IDP09E120_v2_3G%5B1%5D.pdf?folderId=db3a304314dca38901151224afae0c96&fileId=db3a30432313ff5e01237a7d849d7c11
footprint INF-PG-TO220-2-1 (FM, 2-Leads, Body 10x4.4mm, Pitch 5.08mm)
pins: 1 K, 2 A

## IDH06S60C
designator D?
2nd Generation ThinQ SiC Schottky Diode, -55 to 175 degC, PG-TO220-2-1, Tube, Green; Manufacturer: Infineon; PartNumber: IDH06S60C; CT (typ): 280 pF; IF (typ): 6 A; IF,SM (max): 49 A; IR (max): 80 uA; Ptot (max): 63 W; QC (typ): 15 nC; RthJC (max): 2.4 K/W; VDC: 600 V; VF (typ): 1.5 V; DatasheetVersion: Rev. 2.0; PackageVersion: Rev. 01, 10/2008; PackageReference: PG-TO220-2-1; PackageDescription: 2-Pin Plastic (Green) Transistor Single Outline Package, Body 9.25 x 10 mm, Pitch 5.08 mm; Supplier 1: Mouser; Supplier Part Number 1: 726-IDH06S60C; Supplier 2: Newark; Supplier Part Number 2: 12T7352; Supplier 3: Digi-Key; Supplier Part Number 3: IDH06S60C-ND; Packing: Tube; Technology: thinQ! 2G; Mounting Technology: Through Hole; ComponentLink1Description: Manufacturer URL; ComponentLink1URL: http://www.infineon.com/; ComponentLink2Description: Datasheet; ComponentLink2URL: http://www.infineon.com/dgdl/IDH06S60C_rev2.1.pdf?folderId=db3a304314dca38901151224afae0c96&fileId=db3a30432239cccd01225ee06add7e4f; ComponentLink3Description: Package Specification; ComponentLink3URL: http://www.infineon.com/dgdl/IDP09E120_v2_3G%5B1%5D.pdf?folderId=db3a304314dca38901151224afae0c96&fileId=db3a30432313ff5e01237a7d849d7c11
footprint INF-PG-TO220-2-1 (FM, 2-Leads, Body 10x4.4mm, Pitch 5.08mm)
pins: 1 K, 2 A

## IDH06SG60C
designator D?
3rd Generation ThinQ SiC Schottky Diode, -55 to 175 degC, PG-TO220-2-1, Tube, Green; Manufacturer: Infineon; PartNumber: IDH06SG60C; CT (typ): 130 pF; IF (typ): 6 A; IF,SM (max): 32 A; IR (max): 50 uA; Ptot (max): 71 W; QC (typ): 8 nC; RthJC (max): 2.1 K/W; VDC: 600 V; VF (typ): 2.1 V; DatasheetVersion: Rev. 2.4; PackageVersion: Rev. 01, 10/2008; PackageReference: PG-TO220-2-1; PackageDescription: 2-Pin Plastic (Green) Transistor Single Outline Package, Body 9.25 x 10 mm, Pitch 5.08 mm; Supplier 1: Mouser; Supplier Part Number 1: 726-IDH06SG60C; Supplier 2: Farnell; Supplier Part Number 2: 1845004; Supplier 3: Digi-Key; Supplier Part Number 3: IDH06SG60C-ND; Packing: Tube; Technology: thinQ! 3G; Mounting Technology: Through Hole; ComponentLink1Description: Manufacturer URL; ComponentLink1URL: http://www.infineon.com/; ComponentLink2Description: Datasheet; ComponentLink2URL: http://www.infineon.com/dgdl/IDH06SG60C_rev2.4.pdf?folderId=db3a30431ddc9372011ed0010fda1bd3&fileId=db3a30431ed1d7b2011eee0cadfb545a; ComponentLink3Description: Package Specification; ComponentLink3URL: http://www.infineon.com/dgdl/IDP09E120_v2_3G%5B1%5D.pdf?folderId=db3a304314dca38901151224afae0c96&fileId=db3a30432313ff5e01237a7d849d7c11
footprint INF-PG-TO220-2-1 (FM, 2-Leads, Body 10x4.4mm, Pitch 5.08mm)
pins: 1 K, 2 A

## IDH08G65C5
designator D?
5th Generation ThinQ SiC Schottky Diode, -55 to 175 degC, PG-TO220-2-1, Tube, Green; Manufacturer: Infineon; PartNumber: IDH08G65C5; CT (typ): 300 pF; IF (typ): 8 A; IF,SM (max): 68 A; IR (max): 80 uA; Ptot (max): 76 W; QC (typ): 13 nC; RthJC (max): 2 K/W; VDC: 650 V; VF (typ): 1.5 V; DatasheetVersion: Rev. 2.2; PackageVersion: Rev. 01, 10/2008; PackageReference: PG-TO220-2-1; PackageDescription: 2-Pin Plastic (Green) Transistor Single Outline Package, Body 9.25 x 10 mm, Pitch 5.08 mm; Supplier 1: Digi-Key; Supplier Part Number 1: IDH08G65C5-ND; Packing: Tube; Technology: thinQ! 5G; Mounting Technology: Through Hole; ComponentLink1Description: Manufacturer URL; ComponentLink1URL: http://www.infineon.com/; ComponentLink2Description: Datasheet; ComponentLink2URL: http://www.infineon.com/dgdl/IDH08G65C5_Final_Datasheet_v2_2.pdf?folderId=db3a30431ddc9372011ed0010fda1bd3&fileId=db3a30433a047ba0013a068f5352012b; ComponentLink3Description: Package Specification; ComponentLink3URL: http://www.infineon.com/dgdl/IDP09E120_v2_3G%5B1%5D.pdf?folderId=db3a304314dca38901151224afae0c96&fileId=db3a30432313ff5e01237a7d849d7c11
footprint INF-PG-TO220-2-1 (FM, 2-Leads, Body 10x4.4mm, Pitch 5.08mm)
pins: 1 K, 2 A

## IDH08S60C
designator D?
2nd Generation ThinQ SiC Schottky Diode, -55 to 175 degC, PG-TO220-2-1, Tube; Manufacturer: Infineon; PartNumber: IDH08S60C; CT (typ): 310 pF; IF (typ): 8 A; IF,SM (max): 59 A; IR (max): 100 uA; Ptot (max): 75 W; QC (typ): 19 nC; RthJC (max): 2 K/W; VDC: 600 V; VF (typ): 1.5 V; DatasheetVersion: Rev. 2.0; PackageVersion: Rev. 01, 10/2008; PackageReference: PG-TO220-2-1; PackageDescription: 2-Pin Plastic (Green) Transistor Single Outline Package, Body 9.25 x 10 mm, Pitch 5.08 mm; Supplier 1: Mouser; Supplier Part Number 1: 726-IDH08S60C; Supplier 2: Newark; Supplier Part Number 2: 22T5136; Supplier 3: Farnell; Supplier Part Number 3: 1854558; Supplier 4: Digi-Key; Supplier Part Number 4: IDH08S60C-ND; Packing: Tube; Technology: thinQ! 2G; Mounting Technology: Through Hole; ComponentLink1Description: Manufacturer URL; ComponentLink1URL: http://www.infineon.com/; ComponentLink2Description: Datasheet; ComponentLink2URL: http://www.infineon.com/dgdl/IDH08S60C_rev2.1.pdf?folderId=db3a304314dca38901151224afae0c96&fileId=db3a30432239cccd01225eec98947e5f; ComponentLink3Description: Package Specification; ComponentLink3URL: http://www.infineon.com/dgdl/IDP09E120_v2_3G%5B1%5D.pdf?folderId=db3a304314dca38901151224afae0c96&fileId=db3a30432313ff5e01237a7d849d7c11
footprint INF-PG-TO220-2-1 (FM, 2-Leads, Body 10x4.4mm, Pitch 5.08mm)
pins: 1 K, 2 A

## IDH08S120
designator D?
ThinQ SiC Schottky Diode, -55 to 175 degC, PG-TO220-2-1, Tube; Manufacturer: Infineon; PartNumber: IDH08S120; CT (typ): 380 pF; IF (typ): 7.5 A; IF,SM (max): 39 A; IR (max): 180 uA; Ptot (max): 100 W; QC (typ): 27 nC; RthJC (max): 1.5 K/W; VDC: 1,200 V; VF (typ): 1.65 V; DatasheetVersion: Rev. 2.0; PackageVersion: Rev. 01, 10/2008; PackageReference: PG-TO220-2-1; PackageDescription: 2-Pin Plastic (Green) Transistor Single Outline Package, Body 9.25 x 10 mm, Pitch 5.08 mm; Supplier 1: Mouser; Supplier Part Number 1: 726-IDH08S120; Supplier 2: Newark; Supplier Part Number 2: 12T7354; Supplier 3: Farnell; Supplier Part Number 3: 1844985; Supplier 4: Digi-Key; Supplier Part Number 4: IDH08S120-ND; Packing: Tube; Technology: thinQ! 2G; Mounting Technology: Through Hole; ComponentLink1Description: Manufacturer URL; ComponentLink1URL: http://www.infineon.com/; ComponentLink2Description: Datasheet; ComponentLink2URL: http://www.infineon.com/dgdl/IDH08S120_Rev2.pdf?folderId=db3a30431d8a6b3c011dbeca72db281a&fileId=db3a30431f848401011ff4dcd37d535a; ComponentLink3Description: Package Specification; ComponentLink3URL: http://www.infineon.com/dgdl/IDP09E120_v2_3G%5B1%5D.pdf?folderId=db3a304314dca38901151224afae0c96&fileId=db3a30432313ff5e01237a7d849d7c11
footprint INF-PG-TO220-2-1 (FM, 2-Leads, Body 10x4.4mm, Pitch 5.08mm)
pins: 1 K, 2 A

## IDH08SG60C
designator D?
3rd Generation ThinQ SiC Schottky Diode, -55 to 175 degC, PG-TO220-2-1, Tube; Manufacturer: Infineon; PartNumber: IDH08SG60C; CT (typ): 240 pF; IF (typ): 8 A; IF,SM (max): 42 A; IR (max): 70 uA; Ptot (max): 100 W; QC (typ): 12 nC; RthJC (max): 1.5 K/W; VDC: 600 V; VF (typ): 1.8 V; DatasheetVersion: Rev. 2.4; PackageVersion: Rev. 01, 10/2008; PackageReference: PG-TO220-2-1; PackageDescription: 2-Pin Plastic (Green) Transistor Single Outline Package, Body 9.25 x 10 mm, Pitch 5.08 mm; Supplier 1: Mouser; Supplier Part Number 1: 726-IDH08SG60C; Supplier 2: Newark; Supplier Part Number 2: 12T7353; Supplier 3: Farnell; Supplier Part Number 3: 1845005; Supplier 4: Digi-Key; Supplier Part Number 4: IDH08SG60C-ND; Packing: Tube; Technology: thinQ! 3G; Mounting Technology: Through Hole; ComponentLink1Description: Manufacturer URL; ComponentLink1URL: http://www.infineon.com/; ComponentLink2Description: Datasheet; ComponentLink2URL: http://www.infineon.com/dgdl/IDH08SG60C_rev2.4.pdf?folderId=db3a30431ddc9372011ed0010fda1bd3&fileId=db3a30431ddc9372011ed0066b811be6; ComponentLink3Description: Package Specification; ComponentLink3URL: http://www.infineon.com/dgdl/IDP09E120_v2_3G%5B1%5D.pdf?folderId=db3a304314dca38901151224afae0c96&fileId=db3a30432313ff5e01237a7d849d7c11
footprint INF-PG-TO220-2-1 (FM, 2-Leads, Body 10x4.4mm, Pitch 5.08mm)
pins: 1 K, 2 A

## IDH09G65C5
designator D?
5th Generation ThinQ SiC Silicon Carbide Diode, -55 to 175 degC, PG-TO220-2-1, Tube; Manufacturer: Infineon; PartNumber: IDH09G65C5; CT (typ): 270 pF; IF (typ): 9 A; IF,SM (max): 75 A; IR (max): 80 uA; Ptot (max): 82 W; QC (typ): 14 nC; RthJC (max): 1.8 K/W; VDC: 650 V; VF (typ): 1.5 V; DatasheetVersion: Rev. 2.2; PackageVersion: Rev. 01, 10/2008; PackageReference: PG-TO220-2-1; PackageDescription: 2-Pin Plastic (Green) Transistor Single Outline Package, Body 9.25 x 10 mm, Pitch 5.08 mm; Supplier 1: Digi-Key; Supplier Part Number 1: IDH09G65C5-ND; Packing: Tube; Technology: thinQ! 5G; Mounting Technology: Through Hole; ComponentLink1Description: Manufacturer URL; ComponentLink1URL: http://www.infineon.com/; ComponentLink2Description: Datasheet; ComponentLink2URL: http://www.infineon.com/dgdl/IDH09G65C5_Final_Datasheet_v2_2.pdf?folderId=db3a30431ddc9372011ed0010fda1bd3&fileId=db3a30433a047ba0013a069a60db0147; ComponentLink3Description: Package Specification; ComponentLink3URL: http://www.infineon.com/dgdl/IDP09E120_v2_3G%5B1%5D.pdf?folderId=db3a304314dca38901151224afae0c96&fileId=db3a30432313ff5e01237a7d849d7c11
footprint INF-PG-TO220-2-1 (FM, 2-Leads, Body 10x4.4mm, Pitch 5.08mm)
pins: 1 K, 2 A

## IDH09SG60C
designator D?
3rd Generation ThinQ SiC Schottky Diode, -55 to 175 degC, PG-TO220-2-1, Tube; Manufacturer: Infineon; PartNumber: IDH09SG60C; CT (typ): 280 pF; IF (typ): 9 A; IF,SM (max): 49 A; IR (max): 80 uA; Ptot (max): 115 W; QC (typ): 15 nC; RthJC (max): 1.3 K/W; VDC: 600 V; VF (typ): 1.8 V; DatasheetVersion: Rev. 2.3; PackageVersion: Rev. 01, 10/2008; PackageReference: PG-TO220-2-1; PackageDescription: 2-Pin Plastic (Green) Transistor Single Outline Package, Body 9.25 x 10 mm, Pitch 5.08 mm; Supplier 1: Mouser; Supplier Part Number 1: 726-IDH09SG60C; Supplier 2: Digi-Key; Supplier Part Number 2: IDH09SG60C-ND; Packing: Tube; Technology: thinQ! 3G; Mounting Technology: Through Hole; ComponentLink1Description: Manufacturer URL; ComponentLink1URL: http://www.infineon.com/; ComponentLink2Description: Datasheet; ComponentLink2URL: http://www.infineon.com/dgdl/IDH09SG60C_rev2.4.pdf?folderId=db3a30431d8a6b3c011dbeca72db281a&fileId=db3a30431ff98815012047f4e80f2cff; ComponentLink3Description: Package Specification; ComponentLink3URL: http://www.infineon.com/dgdl/IDP09E120_v2_3G%5B1%5D.pdf?folderId=db3a304314dca38901151224afae0c96&fileId=db3a30432313ff5e01237a7d849d7c11
footprint INF-PG-TO220-2-1 (FM, 2-Leads, Body 10x4.4mm, Pitch 5.08mm)
pins: 1 K, 2 A

## IDH10G65C5
designator D?
5th Generation ThinQ SiC Schottky Diode, -55 to 175 degC, PG-TO220-2-1, Tube, Green; Manufacturer: Infineon; PartNumber: IDH10G65C5; CT (typ): 300 pF; IF (typ): 10 A; IF,SM (max): 82 A; IR (max): 90 uA; Ptot (max): 89 W; QC (typ): 15 nC; RthJC (max): 1.7 K/W; VDC: 650 V; VF (typ): 1.5 V; DatasheetVersion: Rev. 2.2; PackageVersion: Rev. 01, 10/2008; PackageReference: PG-TO220-2-1; PackageDescription: 2-Pin Plastic (Green) Transistor Single Outline Package, Body 9.25 x 10 mm, Pitch 5.08 mm; Supplier 1: Digi-Key; Supplier Part Number 1: IDH10G65C5-ND; Packing: Tube; Technology: thinQ! 5G; Mounting Technology: Through Hole; ComponentLink1Description: Manufacturer URL; ComponentLink1URL: http://www.infineon.com/; ComponentLink2Description: Datasheet; ComponentLink2URL: http://www.infineon.com/dgdl/IDH10G65C5_Final_Datasheet_v2_2.pdf?folderId=db3a30431ddc9372011ed0010fda1bd3&fileId=db3a30433a047ba0013a06a8f03d0169; ComponentLink3Description: Package Specification; ComponentLink3URL: http://www.infineon.com/dgdl/IDP09E120_v2_3G%5B1%5D.pdf?folderId=db3a304314dca38901151224afae0c96&fileId=db3a30432313ff5e01237a7d849d7c11
footprint INF-PG-TO220-2-1 (FM, 2-Leads, Body 10x4.4mm, Pitch 5.08mm)
pins: 1 K, 2 A

## IDH10S60C
designator D?
2nd Generation ThinQ SiC Schottky Diode, -55 to 175 degC, PG-TO220-2-1, Tube; Manufacturer: Infineon; PartNumber: IDH10S60C; CT (typ): 480 pF; IF (typ): 10 A; IF,SM (max): 84 A; IR (max): 140 uA; Ptot (max): 100 W; QC (typ): 24 nC; RthJC (max): 1.5 K/W; VDC: 600 V; VF (typ): 1.5 V; DatasheetVersion: Rev. 2.0; PackageVersion: Rev. 01, 10/2008; PackageReference: PG-TO220-2-1; PackageDescription: 2-Pin Plastic (Green) Transistor Single Outline Package, Body 9.25 x 10 mm, Pitch 5.08 mm; Supplier 1: Mouser; Supplier Part Number 1: 726-IDH10S60C; Supplier 2: Newark; Supplier Part Number 2: 12T7358; Supplier 3: Farnell; Supplier Part Number 3: 1844989; Supplier 4: Digi-Key; Supplier Part Number 4: IDH10S60C-ND; Packing: Tube; Technology: thinQ! 2G; Mounting Technology: Through Hole; ComponentLink1Description: Manufacturer URL; ComponentLink1URL: http://www.infineon.com/; ComponentLink2Description: Datasheet; ComponentLink2URL: http://www.infineon.com/dgdl/IDH10S60C_rev2.1.pdf?folderId=db3a304314dca38901151224afae0c96&fileId=db3a30432239cccd01225ef56c747e6f; ComponentLink3Description: Package Specification; ComponentLink3URL: http://www.infineon.com/dgdl/IDP09E120_v2_3G%5B1%5D.pdf?folderId=db3a304314dca38901151224afae0c96&fileId=db3a30432313ff5e01237a7d849d7c11
footprint INF-PG-TO220-2-1 (FM, 2-Leads, Body 10x4.4mm, Pitch 5.08mm)
pins: 1 K, 2 A

## IDH10S120
designator D?
ThinQ SiC Schottky Diode, -55 to 175 degC, PG-TO220-2-1, Tube; Manufacturer: Infineon; PartNumber: IDH10S120; CT (typ): 500 pF; IF (typ): 10 A; IF,SM (max): 58 A; IR (max): 240 uA; Ptot (max): 136.4 W; QC (typ): 36 nC; RthJC (max): 1.1 K/W; VDC: 1,200 V; VF (typ): 1.65 V; DatasheetVersion: Rev. 2.0; PackageVersion: Rev. 01, 10/2008; PackageReference: PG-TO220-2-1; PackageDescription: 2-Pin Plastic (Green) Transistor Single Outline Package, Body 9.25 x 10 mm, Pitch 5.08 mm; Supplier 1: Mouser; Supplier Part Number 1: 726-IDH10S120; Supplier 2: Newark; Supplier Part Number 2: 12T7357; Supplier 3: Farnell; Supplier Part Number 3: 1844986; Supplier 4: Digi-Key; Supplier Part Number 4: IDH10S120-ND; Packing: Tube; Technology: thinQ! 2G; Mounting Technology: Through Hole; ComponentLink1Description: Manufacturer URL; ComponentLink1URL: http://www.infineon.com/; ComponentLink2Description: Datasheet; ComponentLink2URL: http://www.infineon.com/dgdl/IDH10S120_Rev2.pdf?folderId=db3a30431d8a6b3c011dbeca72db281a&fileId=db3a30431f848401011ff4c3f8fe5304; ComponentLink3Description: Package Specification; ComponentLink3URL: http://www.infineon.com/dgdl/IDP09E120_v2_3G%5B1%5D.pdf?folderId=db3a304314dca38901151224afae0c96&fileId=db3a30432313ff5e01237a7d849d7c11
footprint INF-PG-TO220-2-1 (FM, 2-Leads, Body 10x4.4mm, Pitch 5.08mm)
pins: 1 K, 2 A

## IDH10SG60C
designator D?
3rd Generation ThinQ SiC Schottky Diode, -55 to 175 degC, PG-TO220-2-1, Tube; Manufacturer: Infineon; PartNumber: IDH10SG60C; CT (typ): 290 pF; IF (typ): 10 A; IF,SM (max): 51 A; IR (max): 90 uA; Ptot (max): 120 W; QC (typ): 16 nC; RthJC (max): 1.25 K/W; VDC: 600 V; VF (typ): 1.8 V; DatasheetVersion: Rev. 2.4; PackageVersion: Rev. 01, 10/2008; PackageReference: PG-TO220-2-1; PackageDescription: 2-Pin Plastic (Green) Transistor Single Outline Package, Body 9.25 x 10 mm, Pitch 5.08 mm; Supplier 1: Mouser; Supplier Part Number 1: 726-IDH10SG60C; Supplier 2: Newark; Supplier Part Number 2: 12T7356; Supplier 3: Farnell; Supplier Part Number 3: 1845008; Supplier 4: Digi-Key; Supplier Part Number 4: IDH10SG60C-ND; Packing: Tube; Technology: thinQ! 3G; Mounting Technology: Through Hole; ComponentLink1Description: Manufacturer URL; ComponentLink1URL: http://www.infineon.com/; ComponentLink2Description: Datasheet; ComponentLink2URL: http://www.infineon.com/dgdl/IDH10SG60C_rev2.4.pdf?folderId=db3a30431d8a6b3c011dbeca72db281a&fileId=db3a30431f848401011ff4d3f3a2532e; ComponentLink3Description: Package Specification; ComponentLink3URL: http://www.infineon.com/dgdl/IDP09E120_v2_3G%5B1%5D.pdf?folderId=db3a304314dca38901151224afae0c96&fileId=db3a30432313ff5e01237a7d849d7c11
footprint INF-PG-TO220-2-1 (FM, 2-Leads, Body 10x4.4mm, Pitch 5.08mm)
pins: 1 K, 2 A